# Altium integrated library Cypress USB Low-Speed.IntLib: 40 symbols (part 2 of 3)
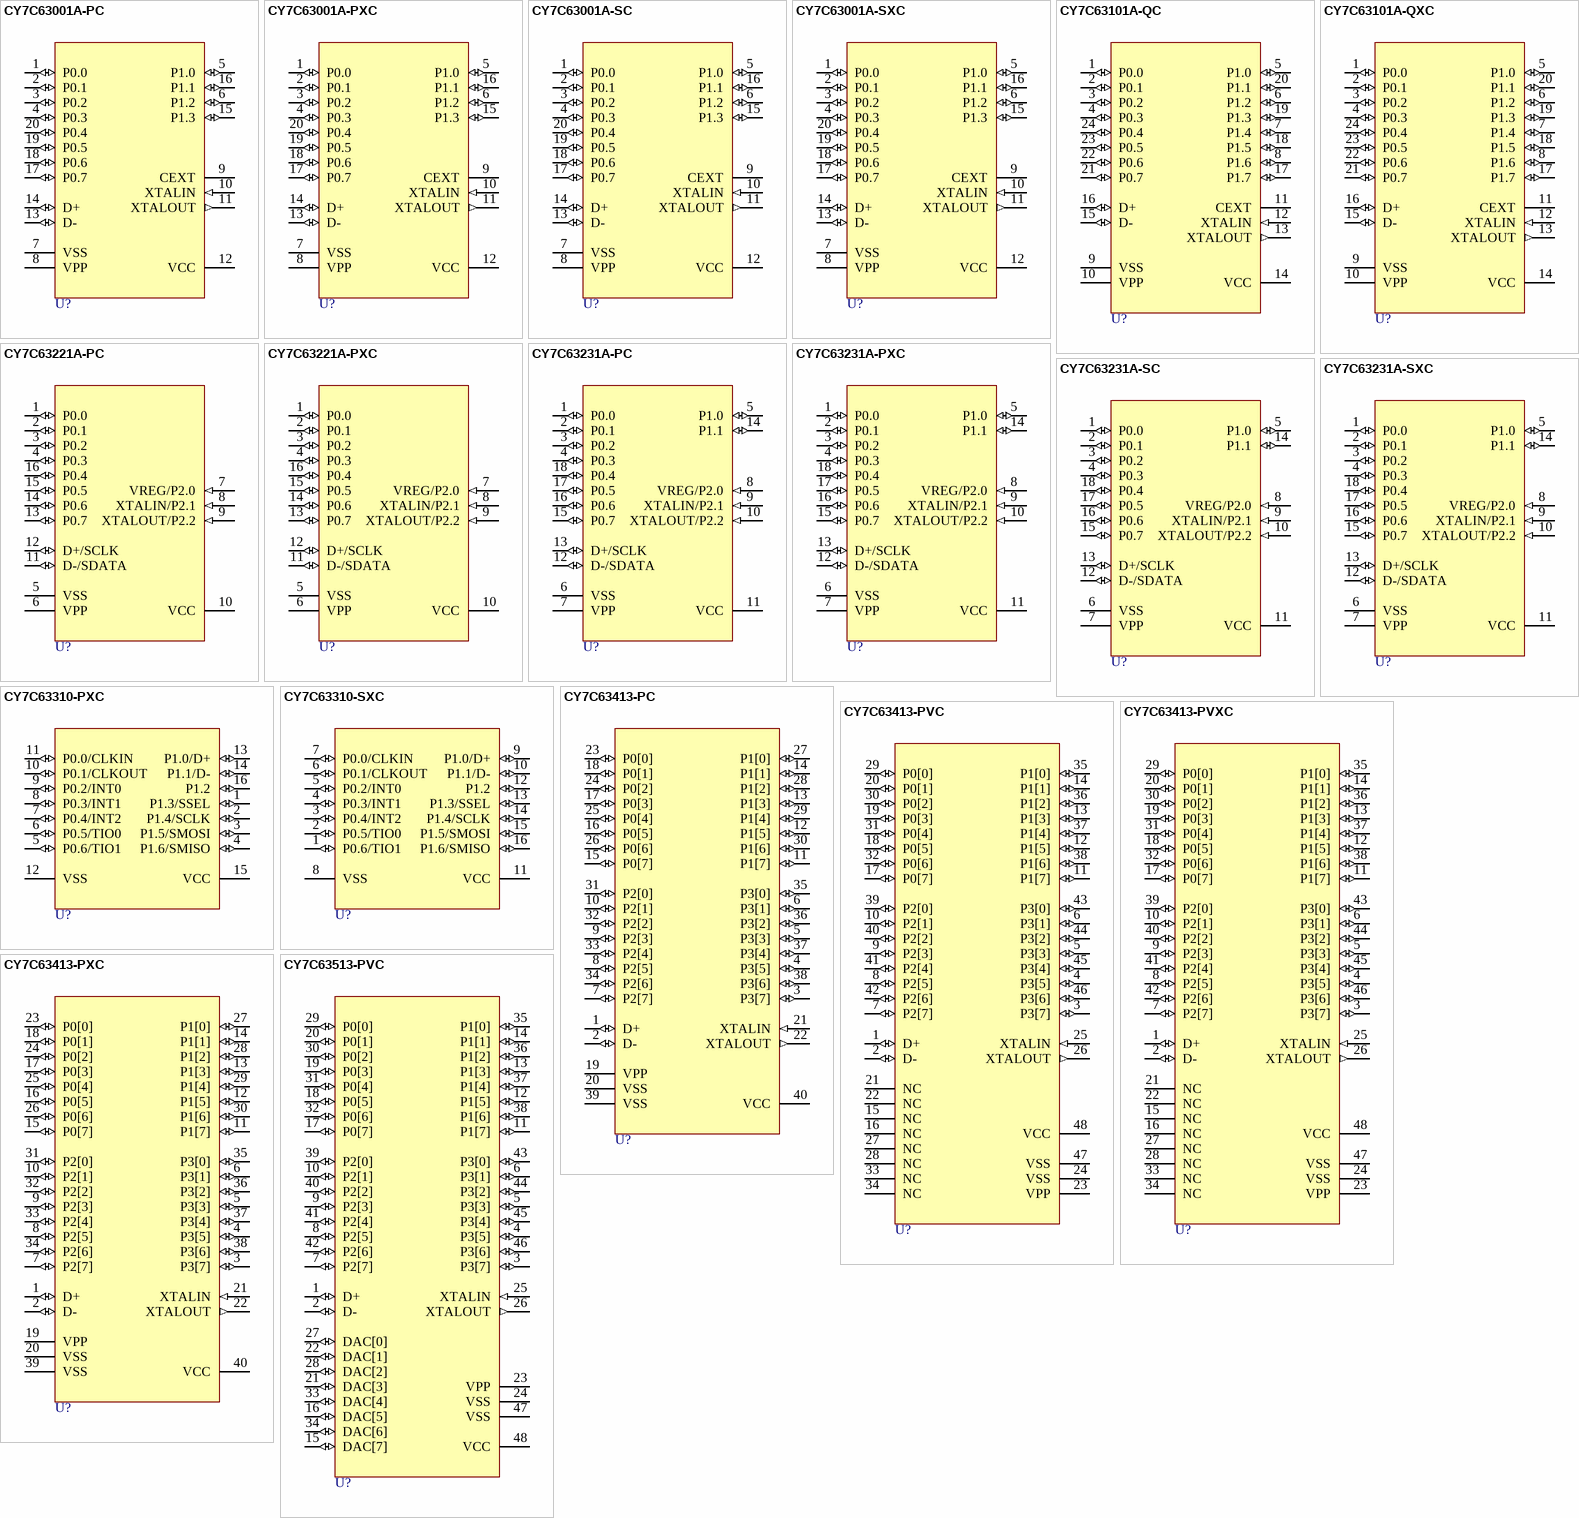
[diagram p3: symbols CY7C63001A-PC to CY7C63513-PVC]

## CY7C63413-PXC
designator U?
Low-Speed USB Microcontroller, 8KB EPROM, 40-Pin PDIP, Commercial Grade, Pb-free; Published: 6-Oct-2005; DatasheetVersion: rev.A, Jul-2004; PackageVersion: Mar-2005; PackageReference: P2; Publisher: Altium Limited; PackageDescription: DIP, Molded, 40-Pin, Row Spacing 15.24 mm, Pitch 2.54 mm, Pb-Free; ComponentLink1Description: Manufacturer Link; ComponentLink1URL: http://www.cypress.com/; ComponentLink2Description: Datasheet; ComponentLink2URL: http://www.cypress.com/portal/server.pt/gateway/PTARGS_0_2_1524_209_259_43/http%3B/sjapp20.mis.cypress.com%3B7001/publishedcontent/publish/design_resources/datasheets/contents/cy7c63413_5.pdf
footprint P2 (DIP, 40-Leads, Row Spacing 15.24mm, Pitch 2.54mm, Body 52.2x13.72mm)
pins: 1 D+ (io) "USB differential data; PS/2 clock and data signals", 2 D- (io) "USB differential data; PS/2 clock and data signals", 3 P3[7] (io) "GPIO Port 3 - Bit 7. Capable of sinking 12 mA (typical).", 4 P3[5] (io) "GPIO Port 3 - Bit 5. Capable of sinking 12 mA (typical).", 5 P3[3] (io) "GPIO Port 3 - Bit 3. Capable of sinking 12 mA (typical).", 6 P3[1] (io) "GPIO Port 3 - Bit 1. Capable of sinking 12 mA (typical).", 7 P2[7] (io) "GPIO Port 2 - Bit 7. Capable of sinking 7 mA (typical).", 8 P2[5] (io) "GPIO Port 2 - Bit 5. Capable of sinking 7 mA (typical).", 9 P2[3] (io) "GPIO Port 2 - Bit 3. Capable of sinking 7 mA (typical).", 10 P2[1] (io) "GPIO Port 2 - Bit 1. Capable of sinking 7 mA (typical).", 11 P1[7] (io) "GPIO Port 1 - Bit 7. Capable of sinking 7 mA (typical).", 12 P1[5] (io) "GPIO Port 1 - Bit 5. Capable of sinking 7 mA (typical).", 13 P1[3] (io) "GPIO Port 1 - Bit 3. Capable of sinking 7 mA (typical).", 14 P1[1] (io) "GPIO Port 1 - Bit 1. Capable of sinking 7 mA (typical).", 15 P0[7] (io) "GPIO port 0 - Bit 7. Capable of sinking 7 mA (typical)", 16 P0[5] (io) "GPIO port 0 - Bit 5. Capable of sinking 7 mA (typical)", 17 P0[3] (io) "GPIO port 0 - Bit 3. Capable of sinking 7 mA (typical)", 18 P0[1] (io) "GPIO port 0 - Bit 1. Capable of sinking 7 mA (typical)", 19 VPP (power) "Programming voltage supply, ground during operation", 20 VSS (power) "Ground", 21 XTALIN (in) "6-MHz ceramic resonator or external clock input", 22 XTALOUT (out) "6-MHz ceramic resonator", 23 P0[0] (io) "GPIO port 0 - Bit 0. Capable of sinking 7 mA (typical)", 24 P0[2] (io) "GPIO port 0 - Bit 2. Capable of sinking 7 mA (typical)", 25 P0[4] (io) "GPIO port 0 - Bit 4. Capable of sinking 7 mA (typical)", 26 P0[6] (io) "GPIO port 0 - Bit 6. Capable of sinking 7 mA (typical)", 27 P1[0] (io) "GPIO Port 1 - Bit 0. Capable of sinking 7 mA (typical).", 28 P1[2] (io) "GPIO Port 1 - Bit 2. Capable of sinking 7 mA (typical).", 29 P1[4] (io) "GPIO Port 1 - Bit 4. Capable of sinking 7 mA (typical).", 30 P1[6] (io) "GPIO Port 1 - Bit 6. Capable of sinking 7 mA (typical).", 31 P2[0] (io) "GPIO Port 2 - Bit 0. Capable of sinking 7 mA (typical).", 32 P2[2] (io) "GPIO Port 2 - Bit 2. Capable of sinking 7 mA (typical).", 33 P2[4] (io) "GPIO Port 2 - Bit 4. Capable of sinking 7 mA (typical).", 34 P2[6] (io) "GPIO Port 2 - Bit 6. Capable of sinking 7 mA (typical).", 35 P3[0] (io) "GPIO Port 3 - Bit 0. Capable of sinking 12 mA (typical).", 36 P3[2] (io) "GPIO Port 3 - Bit 2. Capable of sinking 12 mA (typical).", 37 P3[4] (io) "GPIO Port 3 - Bit 4. Capable of sinking 12 mA (typical).", 38 P3[6] (io) "GPIO Port 3 - Bit 6. Capable of sinking 12 mA (typical).", 39 VSS (power) "Ground", 40 VCC (power) "Voltage supply"

## CY7C63513-PVC
designator U?
Low-Speed USB Microcontroller, 8KB EPROM, 48-Pin SSOP, Commercial Grade; Published: 6-Oct-2005; LatestRevisionDate: 20-Nov-2009; LatestRevisionNote: IPC-7351 Footprint Added.; DatasheetVersion: rev.A, Jul-2004; PackageVersion: Mar-2005; PackageReference: O48; Publisher: Altium Limited; PackageDescription: 48-Pin Small Outline Package 0.635 mm Pitch; Code_JEDEC: MO-118-AA; Code_IPC: SOP635P1035-48; ComponentLink1Description: Manufacturer Link; ComponentLink1URL: http://www.cypress.com/; ComponentLink2Description: Datasheet; ComponentLink2URL: http://www.cypress.com/portal/server.pt/gateway/PTARGS_0_2_1524_209_259_43/http%3B/sjapp20.mis.cypress.com%3B7001/publishedcontent/publish/design_resources/datasheets/contents/cy7c63513_5.pdf
footprint O48_N (SOP, 48-Leads, Body 15.9x7.5mm, Pitch 0.635mm, IPC Medium Density)
footprint O48_L (SOP, 48-Leads, Body 15.9x7.5mm, Pitch 0.635mm, IPC High Density)
footprint O48_M (SOP, 48-Leads, Body 15.9x7.5mm, Pitch 0.635mm, IPC Low Density)
pins: 1 D+ (io) "USB differential data; PS/2 clock and data signals", 2 D- (io) "USB differential data; PS/2 clock and data signals", 3 P3[7] (io) "GPIO Port 3 - Bit 7. Capable of sinking 12 mA (typical).", 4 P3[5] (io) "GPIO Port 3 - Bit 5. Capable of sinking 12 mA (typical).", 5 P3[3] (io) "GPIO Port 3 - Bit 3. Capable of sinking 12 mA (typical).", 6 P3[1] (io) "GPIO Port 3 - Bit 1. Capable of sinking 12 mA (typical).", 7 P2[7] (io) "GPIO Port 2 - Bit 7. Capable of sinking 7 mA (typical).", 8 P2[5] (io) "GPIO Port 2 - Bit 5. Capable of sinking 7 mA (typical).", 9 P2[3] (io) "GPIO Port 2 - Bit 3. Capable of sinking 7 mA (typical).", 10 P2[1] (io) "GPIO Port 2 - Bit 1. Capable of sinking 7 mA (typical).", 11 P1[7] (io) "GPIO Port 1 - Bit 7. Capable of sinking 7 mA (typical).", 12 P1[5] (io) "GPIO Port 1 - Bit 5. Capable of sinking 7 mA (typical).", 13 P1[3] (io) "GPIO Port 1 - Bit 3. Capable of sinking 7 mA (typical).", 14 P1[1] (io) "GPIO Port 1 - Bit 1. Capable of sinking 7 mA (typical).", 15 DAC[7] (io) "DAC I/O Port - Bit 7, with programmable current sink outputs. Has a programmable sink current range of 0.2 to 1.0 mA typical.", 16 DAC[5] (io) "DAC I/O Port - Bit 5, with programmable current sink outputs. Has a programmable sink current range of 0.2 to 1.0 mA typical.", 17 P0[7] (io) "GPIO port 0 - Bit 7. Capable of sinking 7 mA (typical)", 18 P0[5] (io) "GPIO port 0 - Bit 5. Capable of sinking 7 mA (typical)", 19 P0[3] (io) "GPIO port 0 - Bit 3. Capable of sinking 7 mA (typical)", 20 P0[1] (io) "GPIO port 0 - Bit 1. Capable of sinking 7 mA (typical)", 21 DAC[3] (io) "DAC I/O Port - Bit 3, with programmable current sink outputs. Has a programmable sink current range of 0.2 to 1.0 mA typical.", 22 DAC[1] (io) "DAC I/O Port - Bit 1, with programmable current sink outputs. Has a programmable range of 3.2 to 16 mA typical.", 23 VPP (power) "Programming voltage supply, ground during operation", 24 VSS (power) "Ground", 25 XTALIN (in) "6-MHz ceramic resonator or external clock input", 26 XTALOUT (out) "6-MHz ceramic resonator", 27 DAC[0] (io) "DAC I/O Port - Bit 0, with programmable current sink outputs. Has a programmable range of 3.2 to 16 mA typical.", 28 DAC[2] (io) "DAC I/O Port - Bit 2, with programmable current sink outputs. Has a programmable sink current range of 0.2 to 1.0 mA typical.", 29 P0[0] (io) "GPIO port 0 - Bit 0. Capable of sinking 7 mA (typical)", 30 P0[2] (io) "GPIO port 0 - Bit 2. Capable of sinking 7 mA (typical)", 31 P0[4] (io) "GPIO port 0 - Bit 4. Capable of sinking 7 mA (typical)", 32 P0[6] (io) "GPIO port 0 - Bit 6. Capable of sinking 7 mA (typical)", 33 DAC[4] (io) "DAC I/O Port - Bit 4, with programmable current sink outputs. Has a programmable sink current range of 0.2 to 1.0 mA typical.", 34 DAC[6] (io) "DAC I/O Port - Bit 6, with programmable current sink outputs. Has a programmable sink current range of 0.2 to 1.0 mA typical.", 35 P1[0] (io) "GPIO Port 1 - Bit 0. Capable of sinking 7 mA (typical).", 36 P1[2] (io) "GPIO Port 1 - Bit 2. Capable of sinking 7 mA (typical).", 37 P1[4] (io) "GPIO Port 1 - Bit 4. Capable of sinking 7 mA (typical).", 38 P1[6] (io) "GPIO Port 1 - Bit 6. Capable of sinking 7 mA (typical).", 39 P2[0] (io) "GPIO Port 2 - Bit 0. Capable of sinking 7 mA (typical).", 40 P2[2] (io) "GPIO Port 2 - Bit 2. Capable of sinking 7 mA (typical).", 41 P2[4] (io) "GPIO Port 2 - Bit 4. Capable of sinking 7 mA (typical).", 42 P2[6] (io) "GPIO Port 2 - Bit 6. Capable of sinking 7 mA (typical).", 43 P3[0] (io) "GPIO Port 3 - Bit 0. Capable of sinking 12 mA (typical).", 44 P3[2] (io) "GPIO Port 3 - Bit 2. Capable of sinking 12 mA (typical).", 45 P3[4] (io) "GPIO Port 3 - Bit 4. Capable of sinking 12 mA (typical).", 46 P3[6] (io) "GPIO Port 3 - Bit 6. Capable of sinking 12 mA (typical).", 47 VSS (power) "Ground", 48 VCC (power) "Voltage supply"

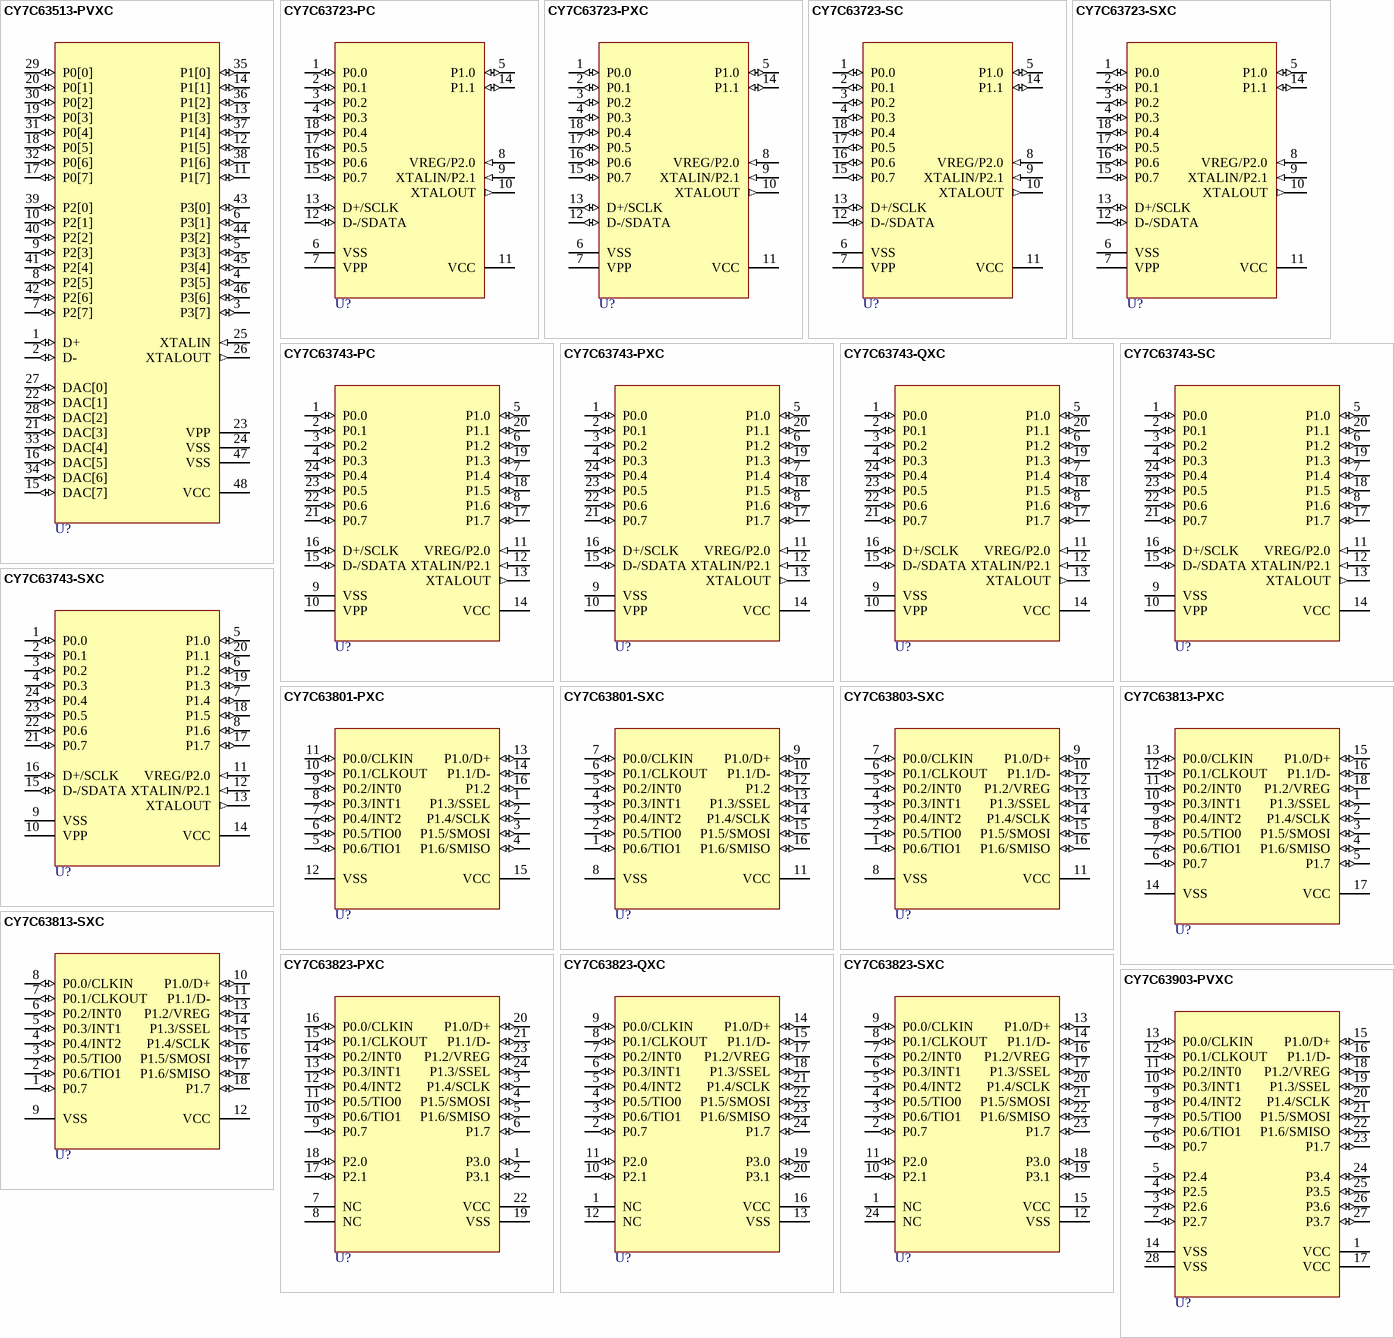
[diagram p1: symbols CY7C63513-PVXC to CY7C63903-PVXC]

## CY7C63513-PVXC
designator U?
Low-Speed USB Microcontroller, 8KB EPROM, 48-Pin SSOP, Commercial Grade, Pb-free; Published: 6-Oct-2005; LatestRevisionDate: 20-Nov-2009; LatestRevisionNote: IPC-7351 Footprint Added.; DatasheetVersion: rev.A, Jul-2004; PackageVersion: Mar-2005; PackageReference: SP48; Publisher: Altium Limited; PackageDescription: 48-Pin Small Outline Package 0.635 mm Pitch - Pb-Free; Code_JEDEC: MO-118-AA; Code_IPC: SOP635P1035-48; ComponentLink1Description: Manufacturer Link; ComponentLink1URL: http://www.cypress.com/; ComponentLink2Description: Datasheet; ComponentLink2URL: http://www.cypress.com/portal/server.pt/gateway/PTARGS_0_2_1524_209_259_43/http%3B/sjapp20.mis.cypress.com%3B7001/publishedcontent/publish/design_resources/datasheets/contents/cy7c63513_5.pdf
footprint SP48_N (SOP, 48-Leads, Body 15.9x7.5mm, Pitch 0.635mm, IPC Medium Density)
footprint SP48_L (SOP, 48-Leads, Body 15.9x7.5mm, Pitch 0.635mm, IPC High Density)
footprint SP48_M (SOP, 48-Leads, Body 15.9x7.5mm, Pitch 0.635mm, IPC Low Density)
pins: 1 D+ (io) "USB differential data; PS/2 clock and data signals", 2 D- (io) "USB differential data; PS/2 clock and data signals", 3 P3[7] (io) "GPIO Port 3 - Bit 7. Capable of sinking 12 mA (typical).", 4 P3[5] (io) "GPIO Port 3 - Bit 5. Capable of sinking 12 mA (typical).", 5 P3[3] (io) "GPIO Port 3 - Bit 3. Capable of sinking 12 mA (typical).", 6 P3[1] (io) "GPIO Port 3 - Bit 1. Capable of sinking 12 mA (typical).", 7 P2[7] (io) "GPIO Port 2 - Bit 7. Capable of sinking 7 mA (typical).", 8 P2[5] (io) "GPIO Port 2 - Bit 5. Capable of sinking 7 mA (typical).", 9 P2[3] (io) "GPIO Port 2 - Bit 3. Capable of sinking 7 mA (typical).", 10 P2[1] (io) "GPIO Port 2 - Bit 1. Capable of sinking 7 mA (typical).", 11 P1[7] (io) "GPIO Port 1 - Bit 7. Capable of sinking 7 mA (typical).", 12 P1[5] (io) "GPIO Port 1 - Bit 5. Capable of sinking 7 mA (typical).", 13 P1[3] (io) "GPIO Port 1 - Bit 3. Capable of sinking 7 mA (typical).", 14 P1[1] (io) "GPIO Port 1 - Bit 1. Capable of sinking 7 mA (typical).", 15 DAC[7] (io) "DAC I/O Port - Bit 7, with programmable current sink outputs. Has a programmable sink current range of 0.2 to 1.0 mA typical.", 16 DAC[5] (io) "DAC I/O Port - Bit 5, with programmable current sink outputs. Has a programmable sink current range of 0.2 to 1.0 mA typical.", 17 P0[7] (io) "GPIO port 0 - Bit 7. Capable of sinking 7 mA (typical)", 18 P0[5] (io) "GPIO port 0 - Bit 5. Capable of sinking 7 mA (typical)", 19 P0[3] (io) "GPIO port 0 - Bit 3. Capable of sinking 7 mA (typical)", 20 P0[1] (io) "GPIO port 0 - Bit 1. Capable of sinking 7 mA (typical)", 21 DAC[3] (io) "DAC I/O Port - Bit 3, with programmable current sink outputs. Has a programmable sink current range of 0.2 to 1.0 mA typical.", 22 DAC[1] (io) "DAC I/O Port - Bit 1, with programmable current sink outputs. Has a programmable range of 3.2 to 16 mA typical.", 23 VPP (power) "Programming voltage supply, ground during operation", 24 VSS (power) "Ground", 25 XTALIN (in) "6-MHz ceramic resonator or external clock input", 26 XTALOUT (out) "6-MHz ceramic resonator", 27 DAC[0] (io) "DAC I/O Port - Bit 0, with programmable current sink outputs. Has a programmable range of 3.2 to 16 mA typical.", 28 DAC[2] (io) "DAC I/O Port - Bit 2, with programmable current sink outputs. Has a programmable sink current range of 0.2 to 1.0 mA typical.", 29 P0[0] (io) "GPIO port 0 - Bit 0. Capable of sinking 7 mA (typical)", 30 P0[2] (io) "GPIO port 0 - Bit 2. Capable of sinking 7 mA (typical)", 31 P0[4] (io) "GPIO port 0 - Bit 4. Capable of sinking 7 mA (typical)", 32 P0[6] (io) "GPIO port 0 - Bit 6. Capable of sinking 7 mA (typical)", 33 DAC[4] (io) "DAC I/O Port - Bit 4, with programmable current sink outputs. Has a programmable sink current range of 0.2 to 1.0 mA typical.", 34 DAC[6] (io) "DAC I/O Port - Bit 6, with programmable current sink outputs. Has a programmable sink current range of 0.2 to 1.0 mA typical.", 35 P1[0] (io) "GPIO Port 1 - Bit 0. Capable of sinking 7 mA (typical).", 36 P1[2] (io) "GPIO Port 1 - Bit 2. Capable of sinking 7 mA (typical).", 37 P1[4] (io) "GPIO Port 1 - Bit 4. Capable of sinking 7 mA (typical).", 38 P1[6] (io) "GPIO Port 1 - Bit 6. Capable of sinking 7 mA (typical).", 39 P2[0] (io) "GPIO Port 2 - Bit 0. Capable of sinking 7 mA (typical).", 40 P2[2] (io) "GPIO Port 2 - Bit 2. Capable of sinking 7 mA (typical).", 41 P2[4] (io) "GPIO Port 2 - Bit 4. Capable of sinking 7 mA (typical).", 42 P2[6] (io) "GPIO Port 2 - Bit 6. Capable of sinking 7 mA (typical).", 43 P3[0] (io) "GPIO Port 3 - Bit 0. Capable of sinking 12 mA (typical).", 44 P3[2] (io) "GPIO Port 3 - Bit 2. Capable of sinking 12 mA (typical).", 45 P3[4] (io) "GPIO Port 3 - Bit 4. Capable of sinking 12 mA (typical).", 46 P3[6] (io) "GPIO Port 3 - Bit 6. Capable of sinking 12 mA (typical).", 47 VSS (power) "Ground", 48 VCC (power) "Voltage supply"

## CY7C63723-PC
designator U?
enCoRe, Low-Speed Combination USB and PS/2 Peripheral Controller, 8KB EPROM, 18-Pin PDIP, Commercial Grade; Published: 6-Oct-2005; DatasheetVersion: rev.B, Sep -2004; PackageVersion: Mar-2005; PackageReference: P3; Publisher: Altium Limited; PackageDescription: DIP, Molded, 18-Pin, Row Spacing 7.62 mm, Pitch 2.54 mm; ComponentLink1Description: Manufacturer Link; ComponentLink1URL: http://www.cypress.com/; ComponentLink2Description: Datasheet; ComponentLink2URL: http://www.cypress.com/portal/server.pt/gateway/PTARGS_0_2_1524_209_259_43/http%3B/sjapp20.mis.cypress.com%3B7001/publishedcontent/publish/design_resources/datasheets/contents/cy7c637xx_5.pdf
footprint P3 (DIP, 18-Leads, Row Spacing 7.62mm, Pitch 2.54mm, Body 22.73x6.48mm)
pins: 1 P0.0 (io) "GPIO Port 0 capable of sinking up to 50 mA/pin, or sinking controlled low or high programmable current. Can also source 2 mA current, provide a resistive pull-up, or serve as a high-impedance input. Provides input to Capture Timer A.", 2 P0.1 (io) "GPIO Port 0 capable of sinking up to 50 mA/pin, or sinking controlled low or high programmable current. Can also source 2 mA current, provide a resistive pull-up, or serve as a high-impedance input. Provides input to Capture Timer B.", 3 P0.2 (io) "GPIO Port 0 capable of sinking up to 50 mA/pin, or sinking controlled low or high programmable current. Can also source 2 mA current, provide a resistive pull-up, or serve as a high-impedance input.", 4 P0.3 (io) "GPIO Port 0 capable of sinking up to 50 mA/pin, or sinking controlled low or high programmable current. Can also source 2 mA current, provide a resistive pull-up, or serve as a high-impedance input.", 5 P1.0 (io) "IO Port 1 capable of sinking up to 50 mA/pin, or sinking controlled low or high programmable current. Can also source 2 mA current, provide a resistive pull-up, or serve as a high-impedance input.", 6 VSS (power) "Ground", 7 VPP (power) "Programming voltage supply, ground for normal operation", 8 VREG/P2.0 (in) "Voltage supply for 1.3-kOhm USB pull-up resistor (3.3V nominal). Also serves as P2.0 input.", 9 XTALIN/P2.1 (in) "6-MHz ceramic resonator or external clock input, or P2.1 input", 10 XTALOUT (out) "6-MHz ceramic resonator return pin or internal oscillator output", 11 VCC (power) "Voltage supply", 12 D-/SDATA (io) "USB differential data line or PS/2 data signal", 13 D+/SCLK (io) "USB differential data line or PS/2 clock signal", 14 P1.1 (io) "IO Port 1 capable of sinking up to 50 mA/pin, or sinking controlled low or high programmable current. Can also source 2 mA current, provide a resistive pull-up, or serve as a high-impedance input.", 15 P0.7 (io) "GPIO Port 0 capable of sinking up to 50 mA/pin, or sinking controlled low or high programmable current. Can also source 2 mA current, provide a resistive pull-up, or serve as a high-impedance input.", 16 P0.6 (io) "GPIO Port 0 capable of sinking up to 50 mA/pin, or sinking controlled low or high programmable current. Can also source 2 mA current, provide a resistive pull-up, or serve as a high-impedance input.", 17 P0.5 (io) "GPIO Port 0 capable of sinking up to 50 mA/pin, or sinking controlled low or high programmable current. Can also source 2 mA current, provide a resistive pull-up, or serve as a high-impedance input.", 18 P0.4 (io) "GPIO Port 0 capable of sinking up to 50 mA/pin, or sinking controlled low or high programmable current. Can also source 2 mA current, provide a resistive pull-up, or serve as a high-impedance input."

## CY7C63723-PXC
designator U?
enCoRe, Low-Speed Combination USB and PS/2 Peripheral Controller, 8KB EPROM, 18-Pin PDIP, Commercial Grade, Pb-free; Published: 6-Oct-2005; DatasheetVersion: rev.B, Sep -2004; PackageVersion: Mar-2005; PackageReference: P3; Publisher: Altium Limited; PackageDescription: DIP, Molded, 18-Pin, Row Spacing 7.62 mm, Pitch 2.54 mm; ComponentLink1Description: Manufacturer Link; ComponentLink1URL: http://www.cypress.com/; ComponentLink2Description: Datasheet; ComponentLink2URL: http://www.cypress.com/portal/server.pt/gateway/PTARGS_0_2_1524_209_259_43/http%3B/sjapp20.mis.cypress.com%3B7001/publishedcontent/publish/design_resources/datasheets/contents/cy7c637xx_5.pdf
footprint P3 (DIP, 18-Leads, Row Spacing 7.62mm, Pitch 2.54mm, Body 22.73x6.48mm)
pins: 1 P0.0 (io) "GPIO Port 0 capable of sinking up to 50 mA/pin, or sinking controlled low or high programmable current. Can also source 2 mA current, provide a resistive pull-up, or serve as a high-impedance input. Provides input to Capture Timer A.", 2 P0.1 (io) "GPIO Port 0 capable of sinking up to 50 mA/pin, or sinking controlled low or high programmable current. Can also source 2 mA current, provide a resistive pull-up, or serve as a high-impedance input. Provides input to Capture Timer B.", 3 P0.2 (io) "GPIO Port 0 capable of sinking up to 50 mA/pin, or sinking controlled low or high programmable current. Can also source 2 mA current, provide a resistive pull-up, or serve as a high-impedance input.", 4 P0.3 (io) "GPIO Port 0 capable of sinking up to 50 mA/pin, or sinking controlled low or high programmable current. Can also source 2 mA current, provide a resistive pull-up, or serve as a high-impedance input.", 5 P1.0 (io) "IO Port 1 capable of sinking up to 50 mA/pin, or sinking controlled low or high programmable current. Can also source 2 mA current, provide a resistive pull-up, or serve as a high-impedance input.", 6 VSS (power) "Ground", 7 VPP (power) "Programming voltage supply, ground for normal operation", 8 VREG/P2.0 (in) "Voltage supply for 1.3-kOhm USB pull-up resistor (3.3V nominal). Also serves as P2.0 input.", 9 XTALIN/P2.1 (in) "6-MHz ceramic resonator or external clock input, or P2.1 input", 10 XTALOUT (out) "6-MHz ceramic resonator return pin or internal oscillator output", 11 VCC (power) "Voltage supply", 12 D-/SDATA (io) "USB differential data line or PS/2 data signal", 13 D+/SCLK (io) "USB differential data line or PS/2 clock signal", 14 P1.1 (io) "IO Port 1 capable of sinking up to 50 mA/pin, or sinking controlled low or high programmable current. Can also source 2 mA current, provide a resistive pull-up, or serve as a high-impedance input.", 15 P0.7 (io) "GPIO Port 0 capable of sinking up to 50 mA/pin, or sinking controlled low or high programmable current. Can also source 2 mA current, provide a resistive pull-up, or serve as a high-impedance input.", 16 P0.6 (io) "GPIO Port 0 capable of sinking up to 50 mA/pin, or sinking controlled low or high programmable current. Can also source 2 mA current, provide a resistive pull-up, or serve as a high-impedance input.", 17 P0.5 (io) "GPIO Port 0 capable of sinking up to 50 mA/pin, or sinking controlled low or high programmable current. Can also source 2 mA current, provide a resistive pull-up, or serve as a high-impedance input.", 18 P0.4 (io) "GPIO Port 0 capable of sinking up to 50 mA/pin, or sinking controlled low or high programmable current. Can also source 2 mA current, provide a resistive pull-up, or serve as a high-impedance input."

## CY7C63723-SC
designator U?
enCoRe, Low-Speed Combination USB and PS/2 Peripheral Controller, 8KB EPROM, 18-Pin SOIC, Commercial Grade; Published: 6-Oct-2005; LatestRevisionDate: 13-Apr-2006; LatestRevisionNote: IPC-7351 Footprint Added.; DatasheetVersion: rev.B, Sep -2004; PackageVersion: Mar-2005; PackageReference: S3; Publisher: Altium Limited; PackageDescription: 18-Pin Small Outline Integrated Circuit 1.27 mm Pitch; Code_JEDEC: MO-119; ComponentLink1Description: Manufacturer Link; ComponentLink1URL: http://www.cypress.com/; ComponentLink2Description: Datasheet; ComponentLink2URL: http://www.cypress.com/portal/server.pt/gateway/PTARGS_0_2_1524_209_259_43/http%3B/sjapp20.mis.cypress.com%3B7001/publishedcontent/publish/design_resources/datasheets/contents/cy7c637xx_5.pdf
footprint S3_N (SOIC, 18-Leads, Body 11.6x7.5mm, Pitch 1.27mm, IPC Medium Density)
footprint S3_L (SOIC, 18-Leads, Body 11.6x7.5mm, Pitch 1.27mm, IPC High Density)
footprint S3_M (SOIC, 18-Leads, Body 11.6x7.5mm, Pitch 1.27mm, IPC Low Density)
pins: 1 P0.0 (io) "GPIO Port 0 capable of sinking up to 50 mA/pin, or sinking controlled low or high programmable current. Can also source 2 mA current, provide a resistive pull-up, or serve as a high-impedance input. Provides input to Capture Timer A.", 2 P0.1 (io) "GPIO Port 0 capable of sinking up to 50 mA/pin, or sinking controlled low or high programmable current. Can also source 2 mA current, provide a resistive pull-up, or serve as a high-impedance input. Provides input to Capture Timer B.", 3 P0.2 (io) "GPIO Port 0 capable of sinking up to 50 mA/pin, or sinking controlled low or high programmable current. Can also source 2 mA current, provide a resistive pull-up, or serve as a high-impedance input.", 4 P0.3 (io) "GPIO Port 0 capable of sinking up to 50 mA/pin, or sinking controlled low or high programmable current. Can also source 2 mA current, provide a resistive pull-up, or serve as a high-impedance input.", 5 P1.0 (io) "IO Port 1 capable of sinking up to 50 mA/pin, or sinking controlled low or high programmable current. Can also source 2 mA current, provide a resistive pull-up, or serve as a high-impedance input.", 6 VSS (power) "Ground", 7 VPP (power) "Programming voltage supply, ground for normal operation", 8 VREG/P2.0 (in) "Voltage supply for 1.3-kOhm USB pull-up resistor (3.3V nominal). Also serves as P2.0 input.", 9 XTALIN/P2.1 (in) "6-MHz ceramic resonator or external clock input, or P2.1 input", 10 XTALOUT (out) "6-MHz ceramic resonator return pin or internal oscillator output", 11 VCC (power) "Voltage supply", 12 D-/SDATA (io) "USB differential data line or PS/2 data signal", 13 D+/SCLK (io) "USB differential data line or PS/2 clock signal", 14 P1.1 (io) "IO Port 1 capable of sinking up to 50 mA/pin, or sinking controlled low or high programmable current. Can also source 2 mA current, provide a resistive pull-up, or serve as a high-impedance input.", 15 P0.7 (io) "GPIO Port 0 capable of sinking up to 50 mA/pin, or sinking controlled low or high programmable current. Can also source 2 mA current, provide a resistive pull-up, or serve as a high-impedance input.", 16 P0.6 (io) "GPIO Port 0 capable of sinking up to 50 mA/pin, or sinking controlled low or high programmable current. Can also source 2 mA current, provide a resistive pull-up, or serve as a high-impedance input.", 17 P0.5 (io) "GPIO Port 0 capable of sinking up to 50 mA/pin, or sinking controlled low or high programmable current. Can also source 2 mA current, provide a resistive pull-up, or serve as a high-impedance input.", 18 P0.4 (io) "GPIO Port 0 capable of sinking up to 50 mA/pin, or sinking controlled low or high programmable current. Can also source 2 mA current, provide a resistive pull-up, or serve as a high-impedance input."

## CY7C63723-SXC
designator U?
enCoRe, Low-Speed Combination USB and PS/2 Peripheral Controller, 8KB EPROM, 18-Pin SOIC, Commercial Grade, Pb-free; Published: 6-Oct-2005; LatestRevisionDate: 13-Apr-2006; LatestRevisionNote: IPC-7351 Footprint Added.; DatasheetVersion: rev.B, Sep -2004; PackageVersion: Mar-2005; PackageReference: S3; Publisher: Altium Limited; PackageDescription: 18-Pin Small Outline Integrated Circuit 1.27 mm Pitch; Code_JEDEC: MO-119; ComponentLink1Description: Manufacturer Link; ComponentLink1URL: http://www.cypress.com/; ComponentLink2Description: Datasheet; ComponentLink2URL: http://www.cypress.com/portal/server.pt/gateway/PTARGS_0_2_1524_209_259_43/http%3B/sjapp20.mis.cypress.com%3B7001/publishedcontent/publish/design_resources/datasheets/contents/cy7c637xx_5.pdf
footprint S3_N (SOIC, 18-Leads, Body 11.6x7.5mm, Pitch 1.27mm, IPC Medium Density)
footprint S3_L (SOIC, 18-Leads, Body 11.6x7.5mm, Pitch 1.27mm, IPC High Density)
footprint S3_M (SOIC, 18-Leads, Body 11.6x7.5mm, Pitch 1.27mm, IPC Low Density)
pins: 1 P0.0 (io) "GPIO Port 0 capable of sinking up to 50 mA/pin, or sinking controlled low or high programmable current. Can also source 2 mA current, provide a resistive pull-up, or serve as a high-impedance input. Provides input to Capture Timer A.", 2 P0.1 (io) "GPIO Port 0 capable of sinking up to 50 mA/pin, or sinking controlled low or high programmable current. Can also source 2 mA current, provide a resistive pull-up, or serve as a high-impedance input. Provides input to Capture Timer B.", 3 P0.2 (io) "GPIO Port 0 capable of sinking up to 50 mA/pin, or sinking controlled low or high programmable current. Can also source 2 mA current, provide a resistive pull-up, or serve as a high-impedance input.", 4 P0.3 (io) "GPIO Port 0 capable of sinking up to 50 mA/pin, or sinking controlled low or high programmable current. Can also source 2 mA current, provide a resistive pull-up, or serve as a high-impedance input.", 5 P1.0 (io) "IO Port 1 capable of sinking up to 50 mA/pin, or sinking controlled low or high programmable current. Can also source 2 mA current, provide a resistive pull-up, or serve as a high-impedance input.", 6 VSS (power) "Ground", 7 VPP (power) "Programming voltage supply, ground for normal operation", 8 VREG/P2.0 (in) "Voltage supply for 1.3-kOhm USB pull-up resistor (3.3V nominal). Also serves as P2.0 input.", 9 XTALIN/P2.1 (in) "6-MHz ceramic resonator or external clock input, or P2.1 input", 10 XTALOUT (out) "6-MHz ceramic resonator return pin or internal oscillator output", 11 VCC (power) "Voltage supply", 12 D-/SDATA (io) "USB differential data line or PS/2 data signal", 13 D+/SCLK (io) "USB differential data line or PS/2 clock signal", 14 P1.1 (io) "IO Port 1 capable of sinking up to 50 mA/pin, or sinking controlled low or high programmable current. Can also source 2 mA current, provide a resistive pull-up, or serve as a high-impedance input.", 15 P0.7 (io) "GPIO Port 0 capable of sinking up to 50 mA/pin, or sinking controlled low or high programmable current. Can also source 2 mA current, provide a resistive pull-up, or serve as a high-impedance input.", 16 P0.6 (io) "GPIO Port 0 capable of sinking up to 50 mA/pin, or sinking controlled low or high programmable current. Can also source 2 mA current, provide a resistive pull-up, or serve as a high-impedance input.", 17 P0.5 (io) "GPIO Port 0 capable of sinking up to 50 mA/pin, or sinking controlled low or high programmable current. Can also source 2 mA current, provide a resistive pull-up, or serve as a high-impedance input.", 18 P0.4 (io) "GPIO Port 0 capable of sinking up to 50 mA/pin, or sinking controlled low or high programmable current. Can also source 2 mA current, provide a resistive pull-up, or serve as a high-impedance input."

## CY7C63743-PC
designator U?
enCoRe, Low-Speed Combination USB and PS/2 Peripheral Controller, 8KB EPROM, 24-Pin PDIP, Commercial Grade; Published: 6-Oct-2005; DatasheetVersion: rev.B, Sep -2004; PackageVersion: Mar-2005; PackageReference: P13; Publisher: Altium Limited; PackageDescription: DIP, Molded, 24-Pin, Row Spacing 7.62 mm, Pitch 2.54 mm; ComponentLink1Description: Manufacturer Link; ComponentLink1URL: http://www.cypress.com/; ComponentLink2Description: Datasheet; ComponentLink2URL: http://www.cypress.com/portal/server.pt/gateway/PTARGS_0_2_1524_209_259_43/http%3B/sjapp20.mis.cypress.com%3B7001/publishedcontent/publish/design_resources/datasheets/contents/cy7c637xx_5.pdf
footprint P13 (DIP, 24-Leads, Row Spacing 7.62mm, Pitch 2.54mm, Body 31.75x6.6mm)
pins: 1 P0.0 (io) "GPIO Port 0 capable of sinking up to 50 mA/pin, or sinking controlled low or high programmable current. Can also source 2 mA current, provide a resistive pull-up, or serve as a high-impedance input. Provides input to Capture Timer A.", 2 P0.1 (io) "GPIO Port 0 capable of sinking up to 50 mA/pin, or sinking controlled low or high programmable current. Can also source 2 mA current, provide a resistive pull-up, or serve as a high-impedance input. Provides input to Capture Timer B.", 3 P0.2 (io) "GPIO Port 0 capable of sinking up to 50 mA/pin, or sinking controlled low or high programmable current. Can also source 2 mA current, provide a resistive pull-up, or serve as a high-impedance input.", 4 P0.3 (io) "GPIO Port 0 capable of sinking up to 50 mA/pin, or sinking controlled low or high programmable current. Can also source 2 mA current, provide a resistive pull-up, or serve as a high-impedance input.", 5 P1.0 (io) "IO Port 1 capable of sinking up to 50 mA/pin, or sinking controlled low or high programmable current. Can also source 2 mA current, provide a resistive pull-up, or serve as a high-impedance input.", 6 P1.2 (io) "IO Port 1 capable of sinking up to 50 mA/pin, or sinking controlled low or high programmable current. Can also source 2 mA current, provide a resistive pull-up, or serve as a high-impedance input.", 7 P1.4 (io) "IO Port 1 capable of sinking up to 50 mA/pin, or sinking controlled low or high programmable current. Can also source 2 mA current, provide a resistive pull-up, or serve as a high-impedance input.", 8 P1.6 (io) "IO Port 1 capable of sinking up to 50 mA/pin, or sinking controlled low or high programmable current. Can also source 2 mA current, provide a resistive pull-up, or serve as a high-impedance input.", 9 VSS (power) "Ground", 10 VPP (power) "Programming voltage supply, ground for normal operation", 11 VREG/P2.0 (in) "Voltage supply for 1.3-kOhm USB pull-up resistor (3.3V nominal). Also serves as P2.0 input.", 12 XTALIN/P2.1 (in) "6-MHz ceramic resonator or external clock input, or P2.1 input", 13 XTALOUT (out) "6-MHz ceramic resonator return pin or internal oscillator output", 14 VCC (power) "Voltage supply", 15 D-/SDATA (io) "USB differential data line or PS/2 data signal", 16 D+/SCLK (io) "USB differential data line or PS/2 clock signal", 17 P1.7 (io) "IO Port 1 capable of sinking up to 50 mA/pin, or sinking controlled low or high programmable current. Can also source 2 mA current, provide a resistive pull-up, or serve as a high-impedance input.", 18 P1.5 (io) "IO Port 1 capable of sinking up to 50 mA/pin, or sinking controlled low or high programmable current. Can also source 2 mA current, provide a resistive pull-up, or serve as a high-impedance input.", 19 P1.3 (io) "IO Port 1 capable of sinking up to 50 mA/pin, or sinking controlled low or high programmable current. Can also source 2 mA current, provide a resistive pull-up, or serve as a high-impedance input.", 20 P1.1 (io) "IO Port 1 capable of sinking up to 50 mA/pin, or sinking controlled low or high programmable current. Can also source 2 mA current, provide a resistive pull-up, or serve as a high-impedance input.", 21 P0.7 (io) "GPIO Port 0 capable of sinking up to 50 mA/pin, or sinking controlled low or high programmable current. Can also source 2 mA current, provide a resistive pull-up, or serve as a high-impedance input.", 22 P0.6 (io) "GPIO Port 0 capable of sinking up to 50 mA/pin, or sinking controlled low or high programmable current. Can also source 2 mA current, provide a resistive pull-up, or serve as a high-impedance input.", 23 P0.5 (io) "GPIO Port 0 capable of sinking up to 50 mA/pin, or sinking controlled low or high programmable current. Can also source 2 mA current, provide a resistive pull-up, or serve as a high-impedance input.", 24 P0.4 (io) "GPIO Port 0 capable of sinking up to 50 mA/pin, or sinking controlled low or high programmable current. Can also source 2 mA current, provide a resistive pull-up, or serve as a high-impedance input."

## CY7C63743-PXC
designator U?
enCoRe, Low-Speed Combination USB and PS/2 Peripheral Controller, 8KB EPROM, 24-Pin PDIP, Commercial Grade, Pb-free; Published: 6-Oct-2005; DatasheetVersion: rev.B, Sep -2004; PackageVersion: Mar-2005; PackageReference: P13; Publisher: Altium Limited; PackageDescription: DIP, Molded, 24-Pin, Row Spacing 7.62 mm, Pitch 2.54 mm; ComponentLink1Description: Manufacturer Link; ComponentLink1URL: http://www.cypress.com/; ComponentLink2Description: Datasheet; ComponentLink2URL: http://www.cypress.com/portal/server.pt/gateway/PTARGS_0_2_1524_209_259_43/http%3B/sjapp20.mis.cypress.com%3B7001/publishedcontent/publish/design_resources/datasheets/contents/cy7c637xx_5.pdf
footprint P13 (DIP, 24-Leads, Row Spacing 7.62mm, Pitch 2.54mm, Body 31.75x6.6mm)
pins: 1 P0.0 (io) "GPIO Port 0 capable of sinking up to 50 mA/pin, or sinking controlled low or high programmable current. Can also source 2 mA current, provide a resistive pull-up, or serve as a high-impedance input. Provides input to Capture Timer A.", 2 P0.1 (io) "GPIO Port 0 capable of sinking up to 50 mA/pin, or sinking controlled low or high programmable current. Can also source 2 mA current, provide a resistive pull-up, or serve as a high-impedance input. Provides input to Capture Timer B.", 3 P0.2 (io) "GPIO Port 0 capable of sinking up to 50 mA/pin, or sinking controlled low or high programmable current. Can also source 2 mA current, provide a resistive pull-up, or serve as a high-impedance input.", 4 P0.3 (io) "GPIO Port 0 capable of sinking up to 50 mA/pin, or sinking controlled low or high programmable current. Can also source 2 mA current, provide a resistive pull-up, or serve as a high-impedance input.", 5 P1.0 (io) "IO Port 1 capable of sinking up to 50 mA/pin, or sinking controlled low or high programmable current. Can also source 2 mA current, provide a resistive pull-up, or serve as a high-impedance input.", 6 P1.2 (io) "IO Port 1 capable of sinking up to 50 mA/pin, or sinking controlled low or high programmable current. Can also source 2 mA current, provide a resistive pull-up, or serve as a high-impedance input.", 7 P1.4 (io) "IO Port 1 capable of sinking up to 50 mA/pin, or sinking controlled low or high programmable current. Can also source 2 mA current, provide a resistive pull-up, or serve as a high-impedance input.", 8 P1.6 (io) "IO Port 1 capable of sinking up to 50 mA/pin, or sinking controlled low or high programmable current. Can also source 2 mA current, provide a resistive pull-up, or serve as a high-impedance input.", 9 VSS (power) "Ground", 10 VPP (power) "Programming voltage supply, ground for normal operation", 11 VREG/P2.0 (in) "Voltage supply for 1.3-kOhm USB pull-up resistor (3.3V nominal). Also serves as P2.0 input.", 12 XTALIN/P2.1 (in) "6-MHz ceramic resonator or external clock input, or P2.1 input", 13 XTALOUT (out) "6-MHz ceramic resonator return pin or internal oscillator output", 14 VCC (power) "Voltage supply", 15 D-/SDATA (io) "USB differential data line or PS/2 data signal", 16 D+/SCLK (io) "USB differential data line or PS/2 clock signal", 17 P1.7 (io) "IO Port 1 capable of sinking up to 50 mA/pin, or sinking controlled low or high programmable current. Can also source 2 mA current, provide a resistive pull-up, or serve as a high-impedance input.", 18 P1.5 (io) "IO Port 1 capable of sinking up to 50 mA/pin, or sinking controlled low or high programmable current. Can also source 2 mA current, provide a resistive pull-up, or serve as a high-impedance input.", 19 P1.3 (io) "IO Port 1 capable of sinking up to 50 mA/pin, or sinking controlled low or high programmable current. Can also source 2 mA current, provide a resistive pull-up, or serve as a high-impedance input.", 20 P1.1 (io) "IO Port 1 capable of sinking up to 50 mA/pin, or sinking controlled low or high programmable current. Can also source 2 mA current, provide a resistive pull-up, or serve as a high-impedance input.", 21 P0.7 (io) "GPIO Port 0 capable of sinking up to 50 mA/pin, or sinking controlled low or high programmable current. Can also source 2 mA current, provide a resistive pull-up, or serve as a high-impedance input.", 22 P0.6 (io) "GPIO Port 0 capable of sinking up to 50 mA/pin, or sinking controlled low or high programmable current. Can also source 2 mA current, provide a resistive pull-up, or serve as a high-impedance input.", 23 P0.5 (io) "GPIO Port 0 capable of sinking up to 50 mA/pin, or sinking controlled low or high programmable current. Can also source 2 mA current, provide a resistive pull-up, or serve as a high-impedance input.", 24 P0.4 (io) "GPIO Port 0 capable of sinking up to 50 mA/pin, or sinking controlled low or high programmable current. Can also source 2 mA current, provide a resistive pull-up, or serve as a high-impedance input."

## CY7C63743-QXC
designator U?
enCoRe, Low-Speed Combination USB and PS/2 Peripheral Controller, 8KB EPROM, 24-Pin QSOP, Commercial Grade, Pb-free; Published: 6-Oct-2005; LatestRevisionDate: 20-Nov-2009; LatestRevisionNote: IPC-7351 Footprint Added.; DatasheetVersion: rev.B, Sep -2004; PackageVersion: Oct-2004; PackageReference: Q13; Publisher: Altium Limited; PackageDescription: 24-Pin Small Outline Package 0.635 mm Pitch; ComponentLink1Description: Manufacturer Link; ComponentLink1URL: http://www.cypress.com/; ComponentLink2Description: Datasheet; ComponentLink2URL: http://www.cypress.com/portal/server.pt/gateway/PTARGS_0_2_1524_209_259_43/http%3B/sjapp20.mis.cypress.com%3B7001/publishedcontent/publish/design_resources/datasheets/contents/cy7c637xx_5.pdf
footprint Q13_N (SOP, 24-Leads, Body 8.6x3.9mm, Pitch 0.635mm, IPC Medium Density)
footprint Q13_L (SOP, 24-Leads, Body 8.6x3.9mm, Pitch 0.635mm, IPC High Density)
footprint Q13_M (SOP, 24-Leads, Body 8.6x3.9mm, Pitch 0.635mm, IPC Low Density)
pins: 1 P0.0 (io) "GPIO Port 0 capable of sinking up to 50 mA/pin, or sinking controlled low or high programmable current. Can also source 2 mA current, provide a resistive pull-up, or serve as a high-impedance input. Provides input to Capture Timer A.", 2 P0.1 (io) "GPIO Port 0 capable of sinking up to 50 mA/pin, or sinking controlled low or high programmable current. Can also source 2 mA current, provide a resistive pull-up, or serve as a high-impedance input. Provides input to Capture Timer B.", 3 P0.2 (io) "GPIO Port 0 capable of sinking up to 50 mA/pin, or sinking controlled low or high programmable current. Can also source 2 mA current, provide a resistive pull-up, or serve as a high-impedance input.", 4 P0.3 (io) "GPIO Port 0 capable of sinking up to 50 mA/pin, or sinking controlled low or high programmable current. Can also source 2 mA current, provide a resistive pull-up, or serve as a high-impedance input.", 5 P1.0 (io) "IO Port 1 capable of sinking up to 50 mA/pin, or sinking controlled low or high programmable current. Can also source 2 mA current, provide a resistive pull-up, or serve as a high-impedance input.", 6 P1.2 (io) "IO Port 1 capable of sinking up to 50 mA/pin, or sinking controlled low or high programmable current. Can also source 2 mA current, provide a resistive pull-up, or serve as a high-impedance input.", 7 P1.4 (io) "IO Port 1 capable of sinking up to 50 mA/pin, or sinking controlled low or high programmable current. Can also source 2 mA current, provide a resistive pull-up, or serve as a high-impedance input.", 8 P1.6 (io) "IO Port 1 capable of sinking up to 50 mA/pin, or sinking controlled low or high programmable current. Can also source 2 mA current, provide a resistive pull-up, or serve as a high-impedance input.", 9 VSS (power) "Ground", 10 VPP (power) "Programming voltage supply, ground for normal operation", 11 VREG/P2.0 (in) "Voltage supply for 1.3-kOhm USB pull-up resistor (3.3V nominal). Also serves as P2.0 input.", 12 XTALIN/P2.1 (in) "6-MHz ceramic resonator or external clock input, or P2.1 input", 13 XTALOUT (out) "6-MHz ceramic resonator return pin or internal oscillator output", 14 VCC (power) "Voltage supply", 15 D-/SDATA (io) "USB differential data line or PS/2 data signal", 16 D+/SCLK (io) "USB differential data line or PS/2 clock signal", 17 P1.7 (io) "IO Port 1 capable of sinking up to 50 mA/pin, or sinking controlled low or high programmable current. Can also source 2 mA current, provide a resistive pull-up, or serve as a high-impedance input.", 18 P1.5 (io) "IO Port 1 capable of sinking up to 50 mA/pin, or sinking controlled low or high programmable current. Can also source 2 mA current, provide a resistive pull-up, or serve as a high-impedance input.", 19 P1.3 (io) "IO Port 1 capable of sinking up to 50 mA/pin, or sinking controlled low or high programmable current. Can also source 2 mA current, provide a resistive pull-up, or serve as a high-impedance input.", 20 P1.1 (io) "IO Port 1 capable of sinking up to 50 mA/pin, or sinking controlled low or high programmable current. Can also source 2 mA current, provide a resistive pull-up, or serve as a high-impedance input.", 21 P0.7 (io) "GPIO Port 0 capable of sinking up to 50 mA/pin, or sinking controlled low or high programmable current. Can also source 2 mA current, provide a resistive pull-up, or serve as a high-impedance input.", 22 P0.6 (io) "GPIO Port 0 capable of sinking up to 50 mA/pin, or sinking controlled low or high programmable current. Can also source 2 mA current, provide a resistive pull-up, or serve as a high-impedance input.", 23 P0.5 (io) "GPIO Port 0 capable of sinking up to 50 mA/pin, or sinking controlled low or high programmable current. Can also source 2 mA current, provide a resistive pull-up, or serve as a high-impedance input.", 24 P0.4 (io) "GPIO Port 0 capable of sinking up to 50 mA/pin, or sinking controlled low or high programmable current. Can also source 2 mA current, provide a resistive pull-up, or serve as a high-impedance input."

## CY7C63743-SC
designator U?
enCoRe, Low-Speed Combination USB and PS/2 Peripheral Controller, 8KB EPROM, 24-Pin SOIC,Commercial Grade; Published: 6-Oct-2005; LatestRevisionDate: 13-Apr-2006; LatestRevisionNote: IPC-7351 Footprint Added.; DatasheetVersion: rev.B, Sep -2004; PackageVersion: Mar-2005; PackageReference: S13; Publisher: Altium Limited; PackageDescription: 24-Pin Molded Small Outline Integrated Circuit 1.27 mm Pitch; Code_JEDEC: MO-119; ComponentLink1Description: Manufacturer Link; ComponentLink1URL: http://www.cypress.com/; ComponentLink2Description: Datasheet; ComponentLink2URL: http://www.cypress.com/portal/server.pt/gateway/PTARGS_0_2_1524_209_259_43/http%3B/sjapp20.mis.cypress.com%3B7001/publishedcontent/publish/design_resources/datasheets/contents/cy7c637xx_5.pdf
footprint S13_N (SOIC, 24-Leads, Body 15.4x7.5mm, Pitch 1.27mm, IPC Medium Density)
footprint S13_L (SOIC, 24-Leads, Body 15.4x7.5mm, Pitch 1.27mm, IPC High Density)
footprint S13_M (SOIC, 24-Leads, Body 15.4x7.5mm, Pitch 1.27mm, IPC Low Density)
pins: 1 P0.0 (io) "GPIO Port 0 capable of sinking up to 50 mA/pin, or sinking controlled low or high programmable current. Can also source 2 mA current, provide a resistive pull-up, or serve as a high-impedance input. Provides input to Capture Timer A.", 2 P0.1 (io) "GPIO Port 0 capable of sinking up to 50 mA/pin, or sinking controlled low or high programmable current. Can also source 2 mA current, provide a resistive pull-up, or serve as a high-impedance input. Provides input to Capture Timer B.", 3 P0.2 (io) "GPIO Port 0 capable of sinking up to 50 mA/pin, or sinking controlled low or high programmable current. Can also source 2 mA current, provide a resistive pull-up, or serve as a high-impedance input.", 4 P0.3 (io) "GPIO Port 0 capable of sinking up to 50 mA/pin, or sinking controlled low or high programmable current. Can also source 2 mA current, provide a resistive pull-up, or serve as a high-impedance input.", 5 P1.0 (io) "IO Port 1 capable of sinking up to 50 mA/pin, or sinking controlled low or high programmable current. Can also source 2 mA current, provide a resistive pull-up, or serve as a high-impedance input.", 6 P1.2 (io) "IO Port 1 capable of sinking up to 50 mA/pin, or sinking controlled low or high programmable current. Can also source 2 mA current, provide a resistive pull-up, or serve as a high-impedance input.", 7 P1.4 (io) "IO Port 1 capable of sinking up to 50 mA/pin, or sinking controlled low or high programmable current. Can also source 2 mA current, provide a resistive pull-up, or serve as a high-impedance input.", 8 P1.6 (io) "IO Port 1 capable of sinking up to 50 mA/pin, or sinking controlled low or high programmable current. Can also source 2 mA current, provide a resistive pull-up, or serve as a high-impedance input.", 9 VSS (power) "Ground", 10 VPP (power) "Programming voltage supply, ground for normal operation", 11 VREG/P2.0 (in) "Voltage supply for 1.3-kOhm USB pull-up resistor (3.3V nominal). Also serves as P2.0 input.", 12 XTALIN/P2.1 (in) "6-MHz ceramic resonator or external clock input, or P2.1 input", 13 XTALOUT (out) "6-MHz ceramic resonator return pin or internal oscillator output", 14 VCC (power) "Voltage supply", 15 D-/SDATA (io) "USB differential data line or PS/2 data signal", 16 D+/SCLK (io) "USB differential data line or PS/2 clock signal", 17 P1.7 (io) "IO Port 1 capable of sinking up to 50 mA/pin, or sinking controlled low or high programmable current. Can also source 2 mA current, provide a resistive pull-up, or serve as a high-impedance input.", 18 P1.5 (io) "IO Port 1 capable of sinking up to 50 mA/pin, or sinking controlled low or high programmable current. Can also source 2 mA current, provide a resistive pull-up, or serve as a high-impedance input.", 19 P1.3 (io) "IO Port 1 capable of sinking up to 50 mA/pin, or sinking controlled low or high programmable current. Can also source 2 mA current, provide a resistive pull-up, or serve as a high-impedance input.", 20 P1.1 (io) "IO Port 1 capable of sinking up to 50 mA/pin, or sinking controlled low or high programmable current. Can also source 2 mA current, provide a resistive pull-up, or serve as a high-impedance input.", 21 P0.7 (io) "GPIO Port 0 capable of sinking up to 50 mA/pin, or sinking controlled low or high programmable current. Can also source 2 mA current, provide a resistive pull-up, or serve as a high-impedance input.", 22 P0.6 (io) "GPIO Port 0 capable of sinking up to 50 mA/pin, or sinking controlled low or high programmable current. Can also source 2 mA current, provide a resistive pull-up, or serve as a high-impedance input.", 23 P0.5 (io) "GPIO Port 0 capable of sinking up to 50 mA/pin, or sinking controlled low or high programmable current. Can also source 2 mA current, provide a resistive pull-up, or serve as a high-impedance input.", 24 P0.4 (io) "GPIO Port 0 capable of sinking up to 50 mA/pin, or sinking controlled low or high programmable current. Can also source 2 mA current, provide a resistive pull-up, or serve as a high-impedance input."